# EAGLE library part 24LC64-I_ST_24LC64-I/ST (library DASHBOARD_PARTS_LIB)
64K I2C Serial EEPROM
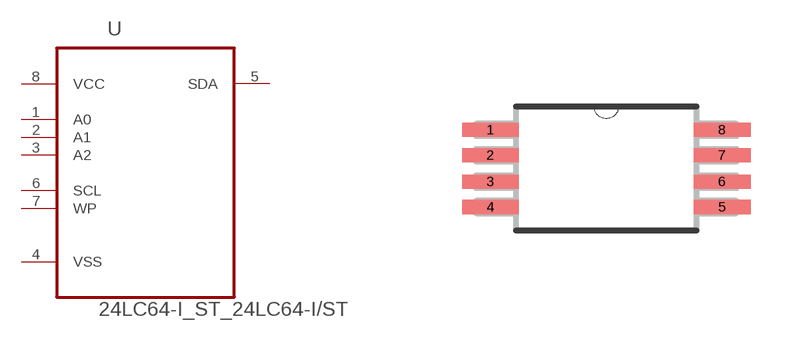
[diagram p0: symbol with the pads of 24LC64-I_ST_SOP65P638X110-8N; footprint 24LC64-I_ST_SOP65P638X110-8N]

Designator prefix U

## 24LC64-I_ST_24LC64-I/ST (AVAILABILITY: Unavailable; DESCRIPTION: 24LC64 Series 64 Kb I2C 2 Wire _8K X 8_ 2.5 V Serial EEPROM SMT - TSSOP-8; MF: Microchip; MP: 24LC64-I/ST; PACKAGE: TSSOP-8 Microchip; PRICE: None)  [24LC64-I_ST_SOP65P638X110-8N]
1  A0  in
2  A1  in
3  A2  in
4  VSS  pas
5  SDA
6  SCL  in
7  WP  in
8  VCC  pwr

## Footprint 24LC64-I_ST_SOP65P638X110-8N (pad centres in mm)
smd 1.422 x 0.356: 1 -2.896,0.965; 2 -2.896,0.33; 3 -2.896,-0.33; 4 -2.896,-0.965; 5 2.896,-0.965; 6 2.896,-0.33; 7 2.896,0.33; 8 2.896,0.965